# EAGLE library part I-04290_OSX10201 (library Akizuki)
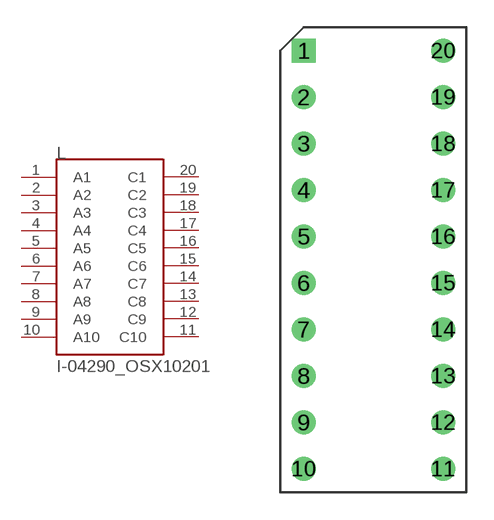
[diagram p6: symbol with the pads of OSX10201; footprint OSX10201]

Designator prefix L

## I-04290_OSX10201  [OSX10201]
1  A1
2  A2
3  A3
4  A4
5  A5
6  A6
7  A7
8  A8
9  A9
10  A10
11  C10
12  C9
13  C8
14  C7
15  C6
16  C5
17  C4
18  C3
19  C2
20  C1

## Footprint OSX10201 (pad centres in mm)
drill 0.8 square: 1 0,0
drill 0.8: 2 0,-2.54; 3 0,-5.08; 4 0,-7.62; 5 0,-10.16; 6 0,-12.7; 7 0,-15.24; 8 0,-17.78; 9 0,-20.32; 10 0,-22.86; 11 7.62,-22.86; 12 7.62,-20.32; 13 7.62,-17.78; 14 7.62,-15.24; 15 7.62,-12.7; 16 7.62,-10.16; 17 7.62,-7.62; 18 7.62,-5.08; 19 7.62,-2.54; 20 7.62,0